# EAGLE library part PIC18F47K42 (library atari)
PIC18F47K42
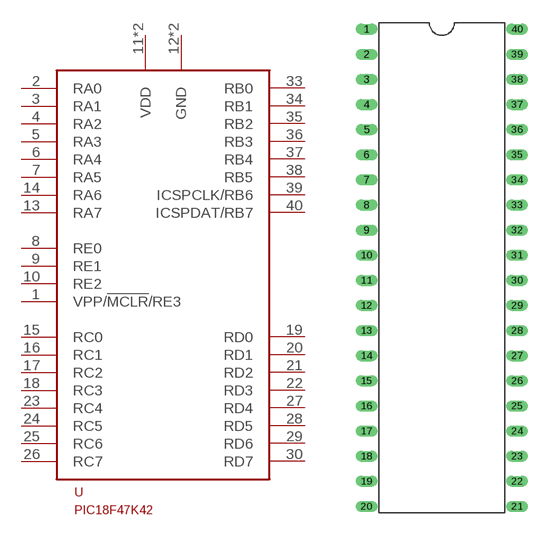
[diagram p0: symbol with the pads of DIP40; footprint DIP40]

Designator prefix -

## PIC18F47K42  [DIP40]
1  VPP/!MCLR!/RE3  in
2  RA0
3  RA1
4  RA2
5  RA3
6  RA4
7  RA5
8  RE0
9  RE1
10  RE2
11  VDD  pwr
12  GND  pwr
13  RA7
14  RA6
15  RC0
16  RC1
17  RC2
18  RC3
19  RD0
20  RD1
21  RD2
22  RD3
23  RC4
24  RC5
25  RC6
26  RC7
27  RD4
28  RD5
29  RD6
30  RD7
31  GND  pwr
32  VDD  pwr
33  RB0
34  RB1
35  RB2
36  RB3
37  RB4
38  RB5
39  ICSPCLK/RB6
40  ICSPDAT/RB7

## Footprint DIP40 (pad centres in mm)
40 pin DIP
drill 0.6 long: 1 -7.62,24.13; 2 -7.62,21.59; 3 -7.62,19.05; 4 -7.62,16.51; 5 -7.62,13.97; 6 -7.62,11.43; 7 -7.62,8.89; 8 -7.62,6.35; 9 -7.62,3.81; 10 -7.62,1.27; 11 -7.62,-1.27; 12 -7.62,-3.81; 13 -7.62,-6.35; 14 -7.62,-8.89; 15 -7.62,-11.43; 16 -7.62,-13.97; 17 -7.62,-16.51; 18 -7.62,-19.05; 19 -7.62,-21.59; 20 -7.62,-24.13; 21 7.62,-24.13; 22 7.62,-21.59; 23 7.62,-19.05; 24 7.62,-16.51; 25 7.62,-13.97; 26 7.62,-11.43; 27 7.62,-8.89; 28 7.62,-6.35; 29 7.62,-3.81; 30 7.62,-1.27; 31 7.62,1.27; 32 7.62,3.81; 33 7.62,6.35; 34 7.62,8.89; 35 7.62,11.43; 36 7.62,13.97; 37 7.62,16.51; 38 7.62,19.05; 39 7.62,21.59; 40 7.62,24.13